# Altium footprint library LT8650S.PcbLib: 1 footprints
Each footprint in its own frame and in the unit in brackets; x right, y up, seen from the top. Pads: shape width x height; smd on the part's side, far side on the other; paste and mask are expansions set on the pad; w line width, h text height; cw(c..) or ccw(c..) is an arc to the next point about the centre after c.
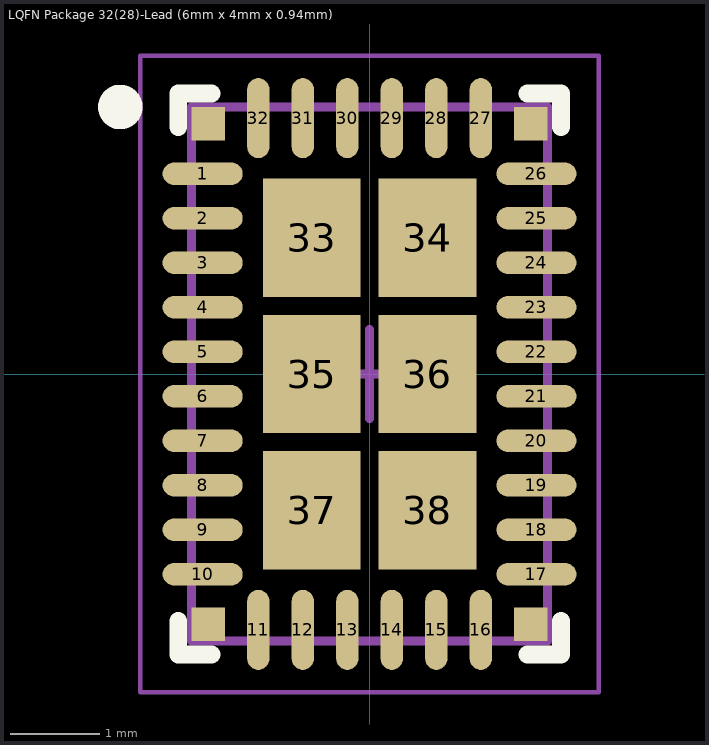
[diagram p0: the footprint, top view; thin cyan lines are the x and y axes]

## LQFN Package 32(28)-Lead (6mm x 4mm x 0.94mm) [mm] "Reference LTC DWG #05-08-1665 RevB)"
height 1.03
pads (42):
  oval 0.9x0.25 smd: 1(-1.875,2.25) 2(-1.875,1.75) 3(-1.875,1.25) 4(-1.875,0.75) 5(-1.875,0.25) 6(-1.875,-0.25) 7(-1.875,-0.75) 8(-1.875,-1.25) 9(-1.875,-1.75) 10(-1.875,-2.25) 17(1.875,-2.25) 18(1.875,-1.75) 19(1.875,-1.25) 20(1.875,-0.75) 21(1.875,-0.25) 22(1.875,0.25) 23(1.875,0.75) 24(1.875,1.25) 25(1.875,1.75) 26(1.875,2.25)
  oval 0.25x0.9 smd: 11(-1.25,-2.875) 12(-0.75,-2.875) 13(-0.25,-2.875) 14(0.25,-2.875) 15(0.75,-2.875) 16(1.25,-2.875) 27(1.25,2.875) 28(0.75,2.875) 29(0.25,2.875) 30(-0.25,2.875) 31(-0.75,2.875) 32(-1.25,2.875)
  rect 1.1x1.33 smd: 33(-0.65,1.53) 34(0.65,1.53) 35(-0.65,0) 36(0.65,0) 37(-0.65,-1.53) 38(0.65,-1.53)
  rect 0.375x0.375 smd: ""(-1.813,-2.812) ""(-1.813,2.812) ""(1.813,-2.812) ""(1.813,2.812)
Top Overlay:
  circle w0.25: c-2.8,3 r0.125
  lines w0.2: -2.15,-2.775 -2.15,-3.15 -1.775,-3.15 ; -2.15,2.775 -2.15,3.15 -1.775,3.15 ; 1.775,-3.15 2.15,-3.15 2.15,-2.775 ; 1.775,3.15 2.15,3.15 2.15,2.775
Mechanical 13:
  lines w0.1: -2,-3 -2,3 2,3 2,-3 -2,-3
Mechanical 15:
  lines w0.05: -2.575,-3.575 -2.575,3.575 2.575,3.575 2.575,-3.575 -2.575,-3.575
  lines w0.1: -0.5,0 0.5,0 ; 0,-0.5 0,0.5
3D body "LQFN Package 32(28)-Lead (6mm x 4mm x 0.94mm).step": height 1.03, standoff 0, extent -2.01,-3.01 2.01,3.01